# EAGLE library part IRF7314_P_MOSFET (library ihpcb-mosfet)
P-channel MOSFET IRF7314 SO-8 package
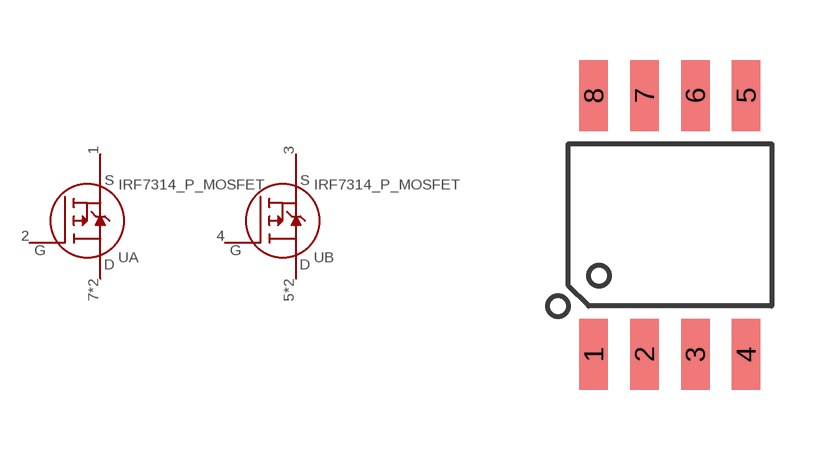
[diagram p0: symbol with the pads of SO-8; footprint SO-8]

Designator prefix U; gates A=P-CHANNEL-MOSFET B=P-CHANNEL-MOSFET

## IRF7314_P_MOSFET  [SO-8]
1  A:S
2  A:G
3  B:S
4  B:G
5  B:D
6  B:D
7  A:D
8  A:D

## Footprint SO-8 (pad centres in mm)
smd 0.711 x 1.778: 1 -1.905,-3.239; 2 -0.635,-3.239; 3 0.635,-3.239; 4 1.905,-3.239; 5 1.905,3.239; 6 0.635,3.239; 7 -0.635,3.239; 8 -1.905,3.239